# Altium schematic symbol library 2021-07-07_21-31-43.SchLib: 2 symbols
Pins are listed as number, name and electrical type; pins without a type are passive.

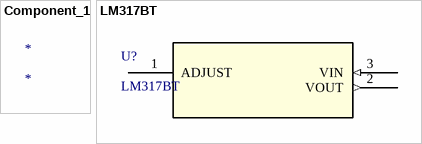
[diagram p0: symbols Component_1 to LM317BT]

## Component_1
designator *

## LM317BT
designator U?
No Description Available; Vendor: ON Semiconductor; SourceLibrary: ONSemi_2017-12-12_3; Manufacturer_Part_Number: LM317BT; Copyright: Copyright (C) 2016 Accelerated Designs. All rights reserved; RefDes: RefDes; Type: DEV
footprint TO220-3_ONS
pins: 1 ADJUST, 2 VOUT (out), 3 VIN (in)